# EAGLE library part DC09-73 (library skyworks)
DIRECTIONAL COUPLER
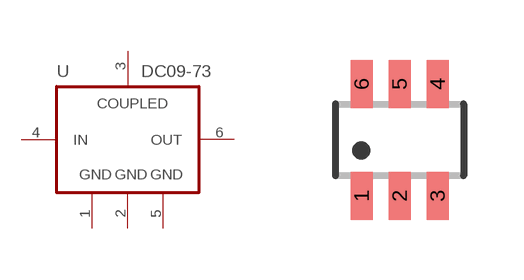
[diagram p0: symbol with the pads of SOT-6; footprint SOT-6]

Designator prefix U

## DC09-73  [SOT-6]
1  GND  pas
2  GND  pas
3  COUPLED  out
4  IN  pas
5  GND  pas
6  OUT  pas

## Footprint SOT-6 (pad centres in mm)
SOT-6 0.95 mm pitch
smd 0.55 x 1.2: 1 -0.95,-1.4; 2 0,-1.4; 3 0.95,-1.4; 4 0.95,1.4; 5 0,1.4; 6 -0.95,1.4